# EAGLE library part TVP5150-NTSC_DECODER (library LM4880)
*** UNPROVEN FOOTPRINT *** Texas Instrument NTSC/PAL Decoder TI Part #TVP5150AM1 Digikey Part # Decodes NTSC video signal to YCbCr 4:2:2 signal
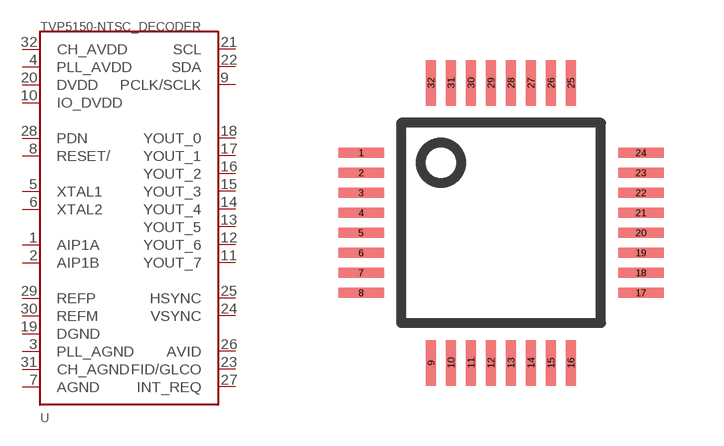
[diagram p181: symbol with the pads of TQFP32-5MM; footprint TQFP32-5MM]

Designator prefix -

## TVP5150-NTSC_DECODER  [TQFP32-5MM]
1  AIP1A
2  AIP1B
3  PLL_AGND
4  PLL_AVDD
5  XTAL1
6  XTAL2
7  AGND
8  RESET/
9  PCLK/SCLK
10  IO_DVDD
11  YOUT_7
12  YOUT_6
13  YOUT_5
14  YOUT_4
15  YOUT_3
16  YOUT_2
17  YOUT_1
18  YOUT_0
19  DGND
20  DVDD
21  SCL
22  SDA
23  FID/GLCO
24  VSYNC
25  HSYNC
26  AVID
27  INT_REQ
28  PDN
29  REFP
30  REFM
31  CH_AGND
32  CH_AVDD

## Footprint TQFP32-5MM (pad centres in mm)
smd 1.143 x 0.254: 1 -3.5,1.75; 2 -3.5,1.25; 3 -3.5,0.75; 4 -3.5,0.25; 5 -3.5,-0.25; 6 -3.5,-0.75; 7 -3.5,-1.25; 8 -3.5,-1.75; 17 3.5,-1.75; 18 3.5,-1.25; 19 3.5,-0.75; 20 3.5,-0.25; 21 3.5,0.25; 22 3.5,0.75; 23 3.5,1.25; 24 3.5,1.75
smd 0.254 x 1.143: 9 -1.75,-3.5; 10 -1.25,-3.5; 11 -0.75,-3.5; 12 -0.25,-3.5; 13 0.25,-3.5; 14 0.75,-3.5; 15 1.25,-3.5; 16 1.75,-3.5; 25 1.75,3.5; 26 1.25,3.5; 27 0.75,3.5; 28 0.25,3.5; 29 -0.25,3.5; 30 -0.75,3.5; 31 -1.25,3.5; 32 -1.75,3.5